# Altium schematic symbol library HCF4060B.SchLib: 1 symbol
Pins are listed as number, name and electrical type; pins without a type are passive.

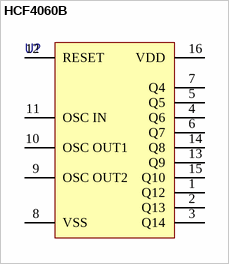
[diagram p0: symbol HCF4060B]

## HCF4060B
designator U?
pins: 1 Q12, 2 Q13, 3 Q14, 4 Q6, 5 Q5, 6 Q7, 7 Q4, 8 VSS, 9 OSC OUT2, 10 OSC OUT1, 11 OSC IN, 12 RESET, 13 Q9, 14 Q8, 15 Q10, 16 VDD (power)